# Altium schematic symbol library UCS2D331MHD.SchLib: 1 symbol
Pins are listed as number, name and electrical type; pins without a type are passive.

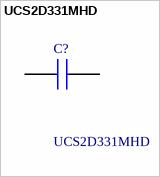
[diagram p0: symbol UCS2D331MHD]

## UCS2D331MHD
designator C?
Nichicon 330uF Electrolytic Capacitor 200V dc Through Hole - UCS2D331MHD; Geometry.Height: 37mm; Mouser Part Number: *; Mouser Price/Stock: *; Manufacturer_Name: Nichicon; Manufacturer_Part_Number: UCS2D331MHD; Datasheet Link: https://www.nichicon.co.jp/english/series_items/catalog_pdf/e-ucs.pdf
footprint CAPPRD750W80D1800H3700
pins: 1 +, 2 -